# EAGLE library part XR-T3589 (library exar)
V.35/BELL 306 DRIVER/RECEIVER
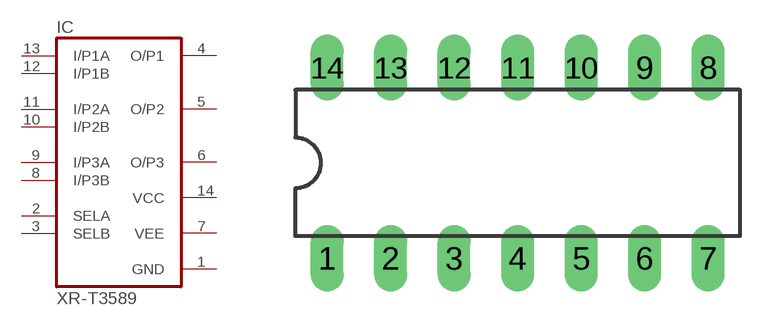
[diagram p2: symbol with the pads of DIL14; footprint DIL14]

Designator prefix IC

## XR-T3589 (OC_FARNELL: unknown; OC_NEWARK: unknown)  [DIL14]
1  GND  pwr
2  SELA  in
3  SELB  in
4  O/P1  out
5  O/P2  out
6  O/P3  out
7  VEE  pwr
8  I/P3B  in
9  I/P3A  in
10  I/P2B  in
11  I/P2A  in
12  I/P1B  in
13  I/P1A  in
14  VCC  pwr

## Footprint DIL14 (pad centres in mm)
Dual In Line Package
drill 0.813 long: 1 -7.62,-3.81; 2 -5.08,-3.81; 3 -2.54,-3.81; 4 0,-3.81; 5 2.54,-3.81; 6 5.08,-3.81; 7 7.62,-3.81; 8 7.62,3.81; 9 5.08,3.81; 10 2.54,3.81; 11 0,3.81; 12 -2.54,3.81; 13 -5.08,3.81; 14 -7.62,3.81